# Altium footprint library 同步整流.PcbLib: 23 footprints (part 2 of 2)
Each footprint in its own frame and in the unit in brackets; x right, y up, seen from the top. Pads: shape width x height; smd on the part's side, far side on the other; paste and mask are expansions set on the pad; w line width, h text height; cw(c..) or ccw(c..) is an arc to the next point about the centre after c.
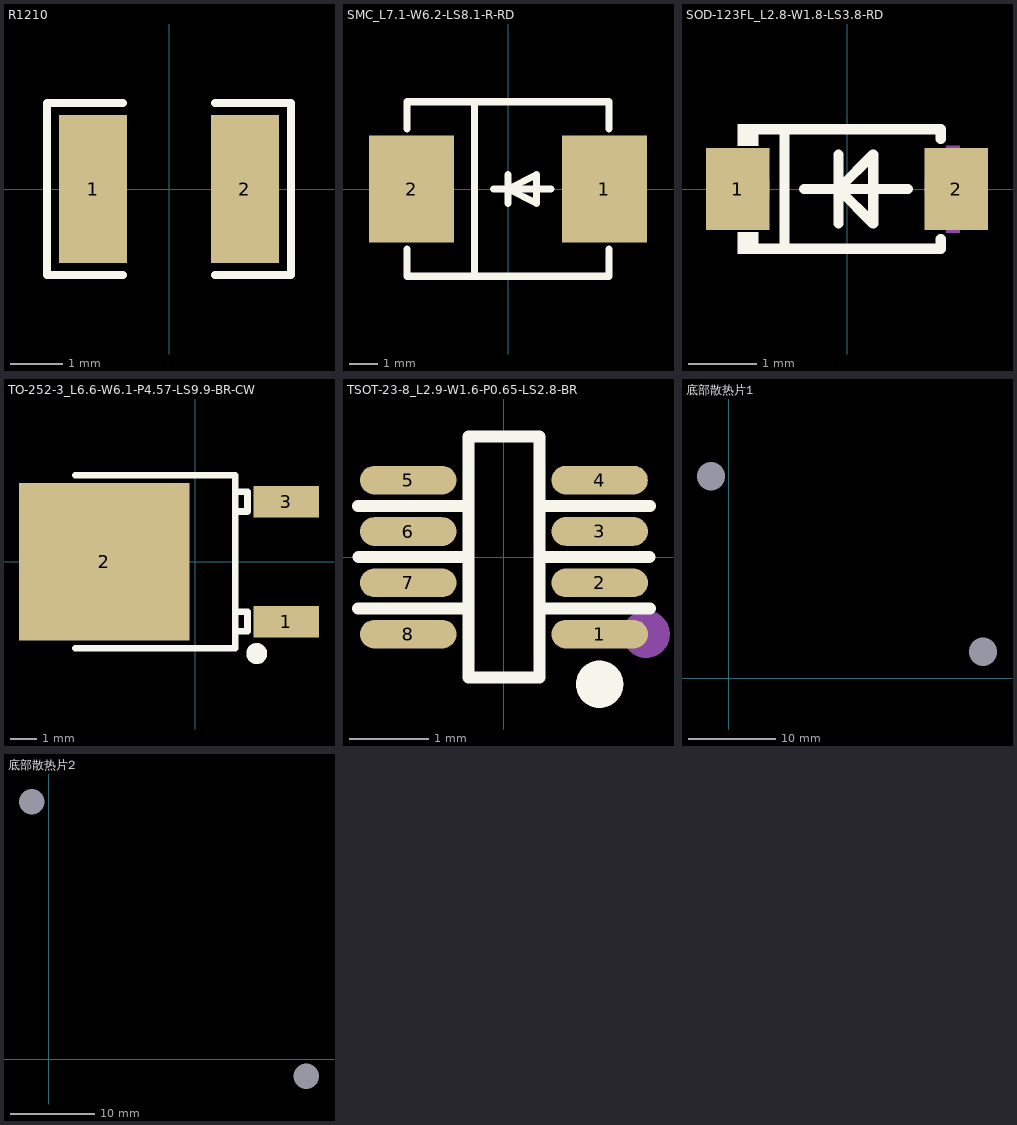
[diagram p1: the footprints below, top view; thin cyan lines are the x and y axes]

## R1210 [mm]
pads (2):
  rect 1.283x2.808 smd: 1(-1.441,0) 2(1.441,0)
Top Overlay:
  lines w0.152: -0.876,-1.633 -2.311,-1.633 -2.311,1.633 -0.876,1.633 ; 0.876,-1.633 2.311,-1.633 2.311,1.633 0.876,1.633
Top Paste:
  region: 0.8,-1.304 0.8,-0.577 0.9,-0.477 1.136,-0.477 1.236,-0.377 1.236,0.377 1.136,0.477 0.9,0.477 0.8,0.577 0.8,1.304 0.9,1.404 1.983,1.404 2.083,1.304 2.083,-1.304 1.983,-1.404 0.9,-1.404
  region: -0.8,-1.304 -0.8,-0.577 -0.9,-0.477 -1.136,-0.477 -1.236,-0.377 -1.236,0.377 -1.136,0.477 -0.9,0.477 -0.8,0.577 -0.8,1.304 -0.9,1.404 -1.983,1.404 -2.083,1.304 -2.083,-1.304 -1.983,-1.404 -0.9,-1.404

## SMC_L7.1-W6.2-LS8.1-R-RD [mm]
pads (2):
  rect 3.03x3.82 smd: 1(3.435,0) 2(-3.435,0)
Top Overlay:
  lines w0.254: -3.6,-2.141 -3.6,-3.11 3.6,-3.11 3.6,-2.141 ; -3.6,2.141 -3.6,3.11 3.6,3.11 3.6,2.141 ; -1.192,-3.11 -1.192,3.11 ; -0.508,0 1.524,0 ; 0,0.508 0,-0.508 0,0 ; 0,0 1.016,-0.508 1.016,0.508 0,0
Mechanical 15:
  region: 2.54,0.254 4.318,0.254 4.318,-0.254 2.54,-0.254
  region: 3.181,-0.895 3.181,0.883 3.689,0.883 3.689,-0.895
  region: -4.33,0.254 -2.552,0.254 -2.552,-0.254 -4.33,-0.254

## SOD-123FL_L2.8-W1.8-LS3.8-RD [mm]
pads (2):
  rect 0.93x1.2 smd: 1(-1.6,0) 2(1.6,0)
Top Overlay:
  region: -1.3,0.952 -1.3,0.632 -1.605,0.632 -1.605,0.952
  region: -1.3,-0.952 -1.3,-0.632 -1.605,-0.632 -1.605,-0.952
  lines w0.15: -0.632,0 0.892,0 ; -0.124,-0.508 -0.124,0.508 ; -0.124,-0.254 -0.124,0.254 ; -0.124,0 0.384,0.508 0.384,-0.508 -0.124,0
  lines w0.152: -1.376,-0.876 1.376,-0.876 1.375,-0.735 ; -1.376,0.876 1.376,0.876 1.375,0.735 ; -0.917,-0.876 -0.917,0.876
Mechanical 15:
  region: -1.905,0.127 -1.905,-0.065 -1.137,-0.065 -1.137,0.127
  region: 1.905,0.127 1.905,-0.065 1.137,-0.065 1.137,0.127
  region: 1.651,0.635 1.651,-0.645 1.459,-0.645 1.459,0.635

## TO-252-3_L6.6-W6.1-P4.57-LS9.9-BR-CW [mm]
pads (3):
  rect 2.5x1.2 smd: 1(3.475,-2.286) 3(3.475,2.286)
  rect 6.5x6 smd: 2(-3.475,0)
Top Overlay:
  circle w0.4: c2.35,-3.5 r0.2
  lines w0.254: -4.575,-3.3 -0.144,-3.3 1.525,-3.3 1.525,3.3 -0.144,3.3 -4.575,3.3 ; 1.525,-2.65 1.994,-2.65 1.994,-1.9 1.525,-1.9 ; 1.525,1.922 1.994,1.922 1.994,2.672 1.525,2.672
Mechanical 15:
  circle w0.5: c3.25,-2.3 r0.25

## TSOT-23-8_L2.9-W1.6-P0.65-LS2.8-BR [mm]
pads (8):
  oval 1.222x0.364 smd mask+0.051: 1(1.211,-0.975) 2(1.211,-0.325) 3(1.211,0.325) 4(1.211,0.975) 5(-1.211,0.975) 6(-1.211,0.325) 7(-1.211,-0.325) 8(-1.211,-0.975)
Top Overlay:
  circle w0.3: c1.211,-1.609 r0.15
  lines w0.152: -1.848,-0.65 -0.45,-0.65 ; -1.848,0.65 -0.45,0.65 ; -1.845,0 -0.45,0 ; 0.45,-0.65 1.848,-0.65 ; 0.45,0 1.845,0 ; 0.45,0.65 1.848,0.65 ; -0.45,-1.526 -0.45,1.526 0.45,1.526 0.45,-1.526 -0.45,-1.526
Mechanical 15:
  circle w0.3: c1.8,-0.975 r0.15

## 底部散热片1 [mm]
pads (2):
  round 0 hole 3.2 mask+0.102: 0(-2,23) 0(29,3)
Bottom Overlay:
  lines w0.61: 0,0 0,26 27,26 27,0 0,0

## 底部散热片2 [mm]
pads (2):
  round 0 hole 3 mask+0.102: 0(-2,30.5) 0(30.5,-2)
Bottom Overlay:
  lines w0.61: 0,0 0,28.5 28.5,28.5 28.5,0 0,0